# Altium schematic symbol library WL-SWTP_3022.SchLib: 5 symbols
Pins are listed as number, name and electrical type; pins without a type are passive.

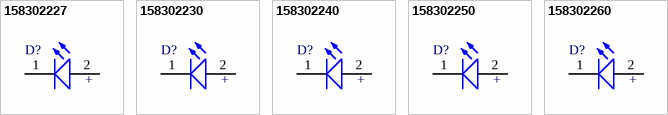
[diagram p0: symbols 158302227 to 158302260]

## 158302227
designator D?
WL-SWTP SMD White Top view PLCC, size 3022, Sunrise; Part Number: 158302227; Forward Voltage: 3.2 V; Viewing Angle: 120°; Luminous Flux: 20 lm; Color Rendering Index: 85; Published Date: Jan 2017; Publisher: Wurth Elektronik; ComponentLink1Description: Manufacturer; ComponentLink1URL: http://www.we-online.de; ComponentLink2Description: Datasheet; ComponentLink2URL: http://katalog.we-online.de/led/datasheet/158302227.pdf; Size: 3022; Emitting Color: Sunrise
footprint WL-SWTP_3022
pins: 1 K, 2 A
text: +

## 158302230
designator D?
WL-SWTP SMD White Top view PLCC, size 3022, Warm White; Part Number: 158302230; Forward Voltage: 3.2 V; Viewing Angle: 120°; Luminous Flux: 20 lm; Color Rendering Index: 85; Published Date: Jan 2017; Publisher: Wurth Elektronik; ComponentLink1Description: Manufacturer; ComponentLink1URL: http://www.we-online.de; ComponentLink2Description: Datasheet; ComponentLink2URL: http://katalog.we-online.de/led/datasheet/158302230.pdf; Size: 3022; Emitting Color: Warm White
footprint WL-SWTP_3022
pins: 1 K, 2 A
text: +

## 158302240
designator D?
WL-SWTP SMD White Top view PLCC, size 3022, Moonlight; Part Number: 158302240; Forward Voltage: 3.2 V; Viewing Angle: 120°; Luminous Flux: 22 lm; Color Rendering Index: 85; Published Date: Jan 2017; Publisher: Wurth Elektronik; ComponentLink1Description: Manufacturer; ComponentLink1URL: http://www.we-online.de; ComponentLink2Description: Datasheet; ComponentLink2URL: http://katalog.we-online.de/led/datasheet/158302240.pdf; Size: 3022; Emitting Color: Moonlight
footprint WL-SWTP_3022 (SMD White Top view PLCC, body 3x2.1)
pins: 1 K, 2 A
text: +

## 158302250
designator D?
WL-SWTP SMD White Top view PLCC, size 3022, Daylight; Part Number: 158302250; Forward Voltage: 3.2 V; Viewing Angle: 120°; Luminous Flux: 22 lm; Color Rendering Index: 85; Published Date: Jan 2017; Publisher: Wurth Elektronik; ComponentLink1Description: Manufacturer; ComponentLink1URL: http://www.we-online.de; ComponentLink2Description: Datasheet; ComponentLink2URL: http://katalog.we-online.de/led/datasheet/158302250.pdf; Size: 3022; Emitting Color: Daylight
footprint WL-SWTP_3022
pins: 1 K, 2 A
text: +

## 158302260
designator D?
WL-SWTP SMD White Top view PLCC, size 3022, Cool White; Part Number: 158302260; Forward Voltage: 3.2 V; Viewing Angle: 120°; Luminous Flux: 22 lm; Color Rendering Index: 90; Published Date: Jan 2017; Publisher: Wurth Elektronik; ComponentLink1Description: Manufacturer; ComponentLink1URL: http://www.we-online.de; ComponentLink2Description: Datasheet; ComponentLink2URL: http://katalog.we-online.de/led/datasheet/158302260.pdf; Size: 3022; Emitting Color: Cool White
footprint WL-SWTP_3022
pins: 1 K, 2 A
text: +